# EAGLE library part GX12-7P (library A10 Library)
GX12 Aviation Connector, 7 pin.
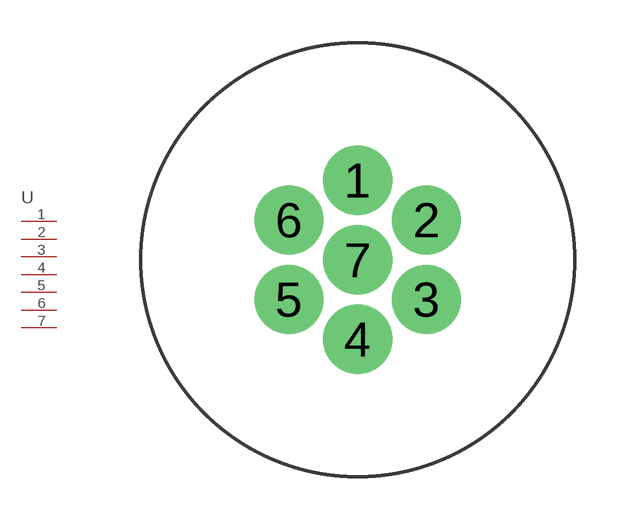
[diagram p1: symbol with the pads of GX12-7P; footprint GX12-7P]

Designator prefix -

## GX12-7P  [GX12-7P]
1  1
2  2
3  3
4  4
5  5
6  6
7  7

## Footprint GX12-7P (pad centres in mm)
drill 1.6 pad 2.184: 1 0,2.75; 2 2.381,1.375; 3 2.381,-1.375; 4 0,-2.75; 5 -2.381,-1.375; 6 -2.381,1.375; 7 0,0